# Altium footprint library IPM_VFD.PcbLib: 33 footprints (part 1 of 3)
Each footprint in its own frame and in the unit in brackets; x right, y up, seen from the top. Pads: shape width x height; smd on the part's side, far side on the other; paste and mask are expansions set on the pad; w line width, h text height; cw(c..) or ccw(c..) is an arc to the next point about the centre after c.
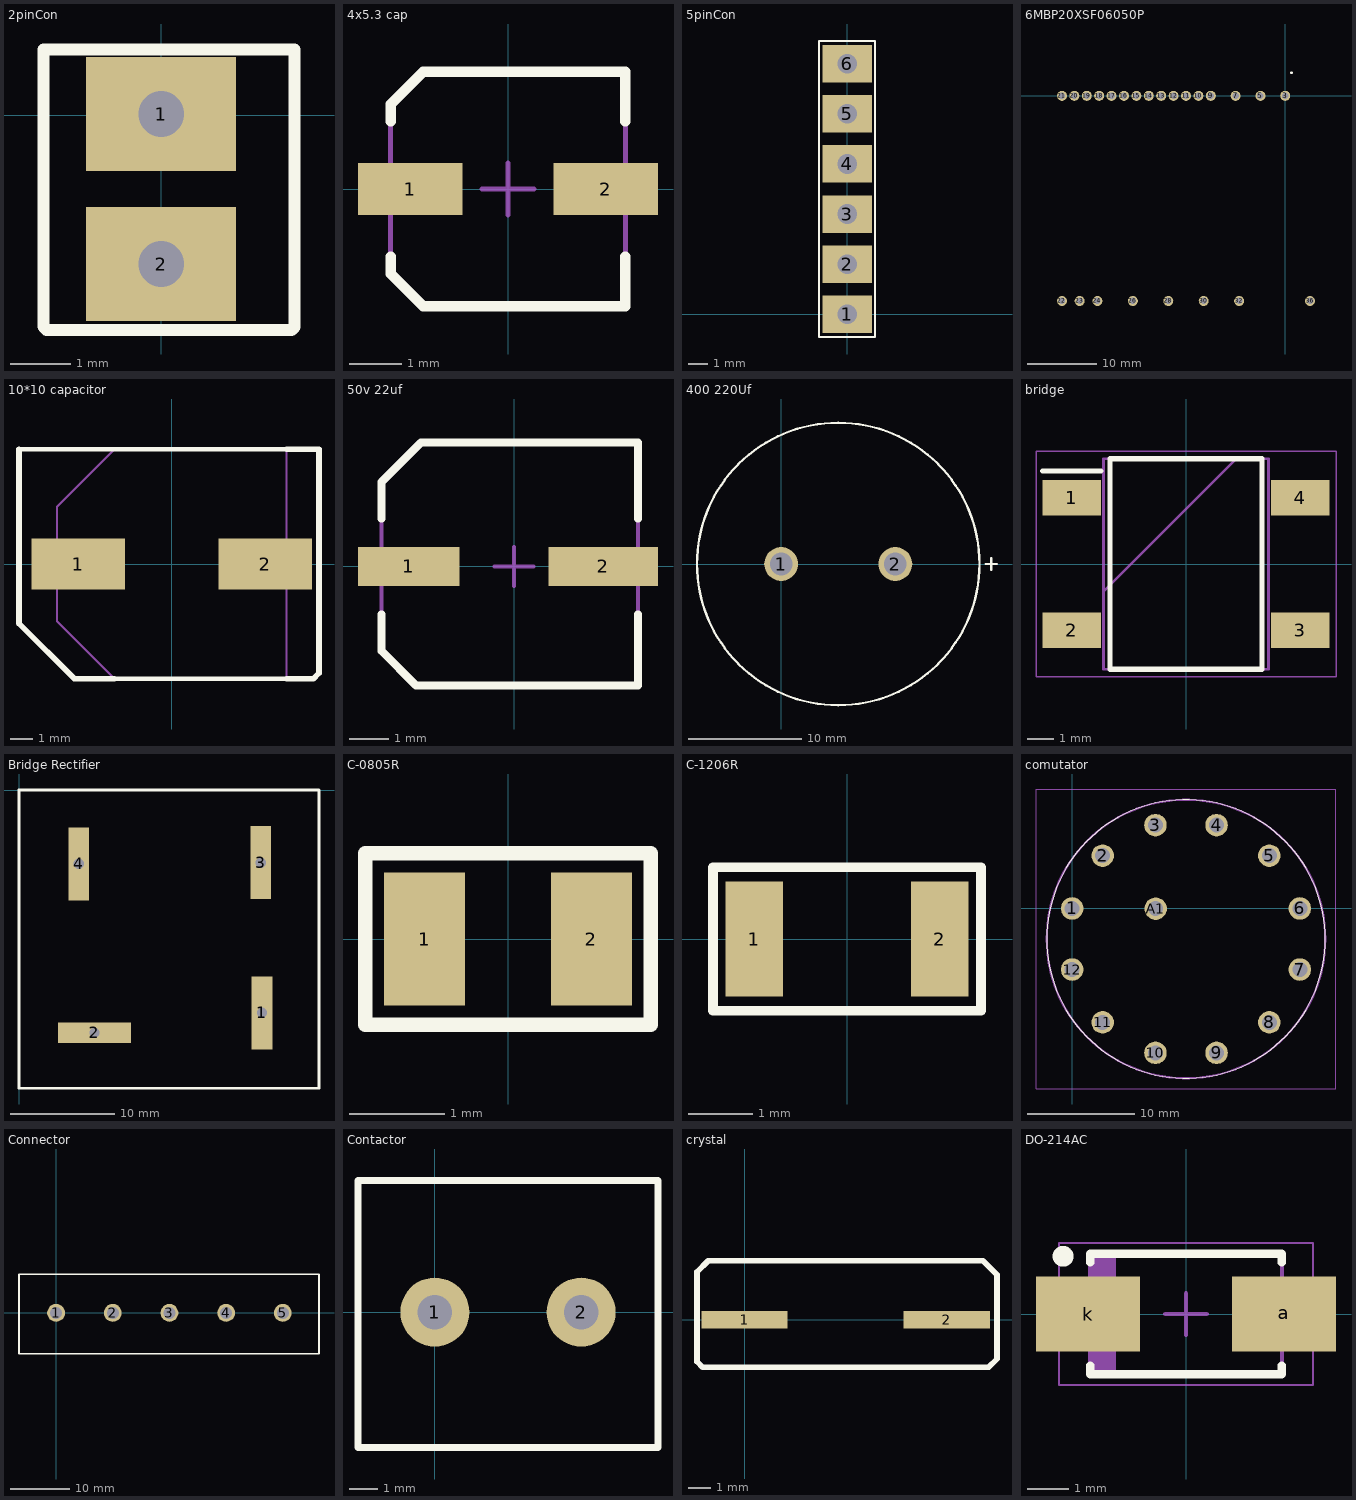
[diagram p0: the footprints below, top view; thin cyan lines are the x and y axes]

## 2pinCon [mm]
pads (2):
  rect 2.5x1.9 hole 0.762 square: 1(0,0.025) 2(0,-2.475)
Top Overlay:
  lines w0.2: -1.965,-3.52 -1.965,1.1 2.225,1.1 2.225,-3.525 2.175,-3.575 -1.91,-3.575 -1.965,-3.52
3D body "User Library-Molex - 2-Pin Header with Lock (0_100in pitch).STEP": height 10.68, standoff -3.54, extent -3.302,-3.81 3.048,1.27

## 4x5.3 cap [mm]
height 5.5
pads (2):
  rect 2x1 smd: 1(-1.875,0) 2(1.875,0)
Top Overlay:
  lines w0.2: -2.25,-1.3 -2.25,-1.625 -1.625,-2.25 2.25,-2.25 2.25,-1.3 ; -2.25,1.3 -2.25,1.625 -1.625,2.25 2.25,2.25 2.25,1.3
Top Assembly:
  lines w0.1: -2.25,-1.625 -1.625,-2.25 2.25,-2.25 2.25,2.25 -1.625,2.25 -2.25,1.625 -2.25,-1.625
Top Courtyard:
  lines w0.1: -0.5,0 0.5,0 ; 0,-0.5 0,0.5
3D body "User Library-4x5_4.step": height 5.71, standoff 0.01, extent -2.633,-2.15 2.667,2.15

## 5pinCon [mm]
pads (6):
  rect 2.5x1.9 hole 1: 1(0,0) 2(0,2.54) 3(0,5.08) 4(0,7.62) 5(0,10.16) 6(0,12.7)
Top Overlay:
  lines w0.1: -1.436,-1.143 -1.436,13.843 1.423,13.843 1.423,-1.143 0.261,-1.143 -0.741,-1.143 -1.436,-1.143

## 6MBP20XSF06050P [mm]
pads (24):
  round 1.431 hole 0.92: 3(0,0) 5(-3.556,0) 7(-7.112,0) 9(-10.668,0) 10(-12.446,0) 11(-14.224,0) 12(-16.002,0) 13(-17.78,0) 14(-19.558,0) 15(-21.336,0) 16(-23.114,0) 17(-24.892,0) 18(-26.67,0) 19(-28.448,0) 20(-30.226,0) 21(-32.004,0) 22(-32.004,-29.4) 23(-29.464,-29.4) 24(-26.924,-29.4) 26(-21.844,-29.4) 28(-16.764,-29.4) 30(-11.684,-29.4) 32(-6.604,-29.4) 36(3.556,-29.4)
Top Overlay:
  lines w0.2: 0.776,3.3 cw(c0.876,3.3) 0.976,3.3 cw(c0.876,3.3) 0.776,3.3
Bottom Overlay:
  lines w0.1: -35.724,-27.7 -35.724,-1.778 7.276,-1.778 7.276,-27.7 -35.724,-27.7

## 10*10 capacitor [mm]
pads (2):
  rect 4.2x2.3 smd: 1(-4.2,0) 2(4.2,0)
Top Overlay:
  lines w0.2: -6.858,5.15 5.15,5.15 ; -2.575,-5.15 5.15,-5.15
  lines w0.254: -6.858,5.15 -6.858,1.27 -6.858,-2.667 -4.375,-5.15 -2.575,-5.15 ; 5.15,-5.15 6.35,-5.15 6.604,-4.896 6.604,5.15 5.15,5.15
Mechanical 13:
  lines w0.1: -5.15,-2.575 -5.15,2.575 -2.575,5.15 5.15,5.15 5.15,-5.15 -2.575,-5.15 -5.15,-2.575
3D body "VZH331M1VTR-1010K.stp": height 10.5, standoff 0, extent -5.6,-5.25 5.6,5.25

## 50v 22uf [mm] "Aluminum Electrolytic Capacitor, Body 6.70x6.70x6.30mm, IPC Low Density"
height 6.3
pads (2):
  rect 2.6x1 smd: 1(-2.7,0)
  rect 2.8x1 smd: 2(2.286,0)
Top Overlay:
  lines w0.2: -3.4,-1.225 -3.4,-2.163 -2.515,-3.048 3.175,-3.048 3.175,-1.225 ; -3.4,1.225 -3.4,2.163 -2.387,3.175 3.175,3.175 3.175,1.225
Top Assembly:
  lines w0.1: -3.4,-2.163 -3.4,2.163 -2.387,3.175 3.175,3.175 3.175,-3.048 -2.515,-3.048 -3.4,-2.163
Top Courtyard:
  lines w0.1: -0.5,0 0.5,0 ; 0,-0.5 0,0.5
3D body "User Library-Nichicon_CW6_3x7.STEP": height 6.92, standoff 0.01, extent -3.627,-3.173 3.373,3.427

## 400 220Uf [mm]
pads (2):
  round 3 hole 2: 1(0,0) 2(10.1,0)
Top Overlay:
  circle w0.2: c5.05,0 r12.5
  lines w0.2: 18.082,0 19.098,0 ; 18.59,-0.508 18.59,0.508
3D body "U1-YY.step": height 49.77, standoff -5.58, extent -6.045,-11.176 15.951,10.82

## bridge [mm]
pads (4):
  rect 2.25x1.35 smd: 1(-4.4,2.55) 2(-4.4,-2.55) 3(4.4,-2.55) 4(4.4,2.55)
Top Overlay:
  lines w0.2: -5.525,3.575 -3.275,3.575 ; -2.925,-4.05 -2.925,4.05 2.925,4.05 2.925,-4.05 -2.925,-4.05
Mechanical 13:
  lines w0.1: -3.175,-1.05 1.925,4.05 ; -3.175,-4.05 -3.175,4.05 3.175,4.05 3.175,-4.05 -3.175,-4.05
Mechanical 15:
  lines w0.05: -5.775,-4.35 -5.775,4.35 5.775,4.35 5.775,-4.35 -5.775,-4.35
3D body "DF005S-G.stp": height 2.8, standoff 0, extent -5.075,-4.05 5.075,4.05

## Bridge Rectifier [mm]
pads (4):
  rect 2x7 hole 1 square: 1(23.368,-21.463) 3(23.241,-6.985) 4(5.715,-7.112)
  rect 7x2 hole 1 square: 2(7.239,-23.368)
Top Overlay:
  lines w0.254: -0.031,0.045 -0.031,-28.733 28.86,-28.733 28.86,0 0,0
3D body "Rectifier KBPC3510 v1.step": height 11.01, standoff -11.01, extent 0.702,-28.127 28.702,-0.127

## C-0805R [mm] "capacitor 0805 reflow soldering"
pads (2):
  rect 0.85x1.4 smd: 1(-0.875,0) 2(0.875,0)
Top Overlay:
  lines w0.152: -1.5,-0.9 -1.5,0.9 1.5,0.9 1.5,-0.9 0.625,-0.9 -1.5,-0.9
3D body "CAP0805.stp": height 0.78, standoff 0, extent -1,-0.625 1,0.625

## C-1206R [mm] "capacitor 1206 reflow soldering"
pads (2):
  rect 0.9x1.8 smd: 1(-1.45,0) 2(1.45,0)
Top Overlay:
  lines w0.152: -2.1,-1.125 2.1,-1.125 2.1,1.125 1.13,1.125 -2.1,1.125 -2.1,-1.125
3D body "CAP1206.stp": height 1, standoff 0, extent -1.6,-0.8 1.6,0.8

## comutator [mm]
pads (13):
  round 2.1 hole 1.4: 1(0,0) 2(2.847,4.931) 3(7.778,7.778) 4(13.472,7.778) 5(18.403,4.931) 6(21.25,0) 7(21.25,-5.694) 8(18.403,-10.625) 9(13.472,-13.472) 10(7.778,-13.472) 11(2.847,-10.625) 12(0,-5.694) A1(7.797,-0.019)
Top Overlay:
  lines w0.1: -2.375,-2.847 ccw(c10.625,-2.847) 23.625,-2.847 ccw(c10.625,-2.847) -2.375,-2.847
Mechanical 13:
  lines w0.2: -2.375,-2.847 ccw(c10.625,-2.847) 23.625,-2.847 ccw(c10.625,-2.847) -2.375,-2.847
Mechanical 15:
  lines w0.1: -3.375,-16.847 24.625,-16.847 24.625,11.153 -3.375,11.153 -3.375,-16.847
3D body "SR2612F-0112-38F5B-D8-S.stp": height 34.1, standoff -5, extent -2.375,-15.847 23.625,10.153

## Connector [mm]
pads (5):
  round 3 hole 2: 1(0,0) 2(9.5,0) 3(19,0) 4(28.5,0) 5(38,0)
Top Overlay:
  lines w0.254: -6.223,-6.858 -6.223,6.477 -2.032,6.477 44.069,6.477 44.069,-6.858 -6.223,-6.858

## Contactor [mm]
pads (2):
  round 2.4 hole 1.2: 1(0,0) 2(5.08,0)
Top Overlay:
  lines w0.254: -2.667,-4.699 -2.667,4.572 7.747,4.572 7.747,-4.699 -2.667,-4.699
3D body "User Library-2 Way PCB Screw Terminal Block 5_08mm.STEP": height 15.21, standoff -3.49, extent -2.54,-4.572 7.62,4.428

## crystal [mm]
pads (2):
  rect 3.9x0.8 smd: 1(0,0) 2(9.153,0)
Top Overlay:
  lines w0.254: -2.159,-1.905 -1.905,-2.159 11.049,-2.159 11.43,-1.778 11.43,2.032 10.795,2.667 -1.651,2.667 -2.159,2.159 -2.159,-1.905
3D body "User Library-SMU4.STEP": height 4.01, standoff 0.01, extent -1.669,-2.273 10.832,2.527

## DO-214AC [mm]
height 1.35
pads (2):
  rect 2.5x1.8 smd: a(2.35,0) k(-2.35,0)
Top Overlay:
  circle w0.25: c-2.95,1.385 r0.125
  lines w0.2: -2.3,-1.235 -2.3,-1.45 2.3,-1.45 2.3,-1.235 ; -2.3,1.235 -2.3,1.45 2.3,1.45 2.3,1.235
Top Assembly:
  rectangle: -2.3,-1.45 -1.681,1.45
  lines w0.1: -2.3,-1.45 -2.3,1.45 2.3,1.45 2.3,-1.45 -2.3,-1.45
Top Courtyard:
  lines w0.05: -3.05,-1.7 -3.05,1.7 3.05,1.7 3.05,-1.7 -3.05,-1.7
  lines w0.1: -0.5,0 0.5,0 ; 0,-0.5 0,0.5
3D body "User Library-DO-214AC(SMA).STEP": height 2.3, standoff 0.01, extent -2.768,-1.422 2.718,1.372